# Altium footprint library RF Connectors.PcbLib: 8 footprints
Each footprint in its own frame and in the unit in brackets; x right, y up, seen from the top. Pads: shape width x height; smd on the part's side, far side on the other; paste and mask are expansions set on the pad; w line width, h text height; cw(c..) or ccw(c..) is an arc to the next point about the centre after c.
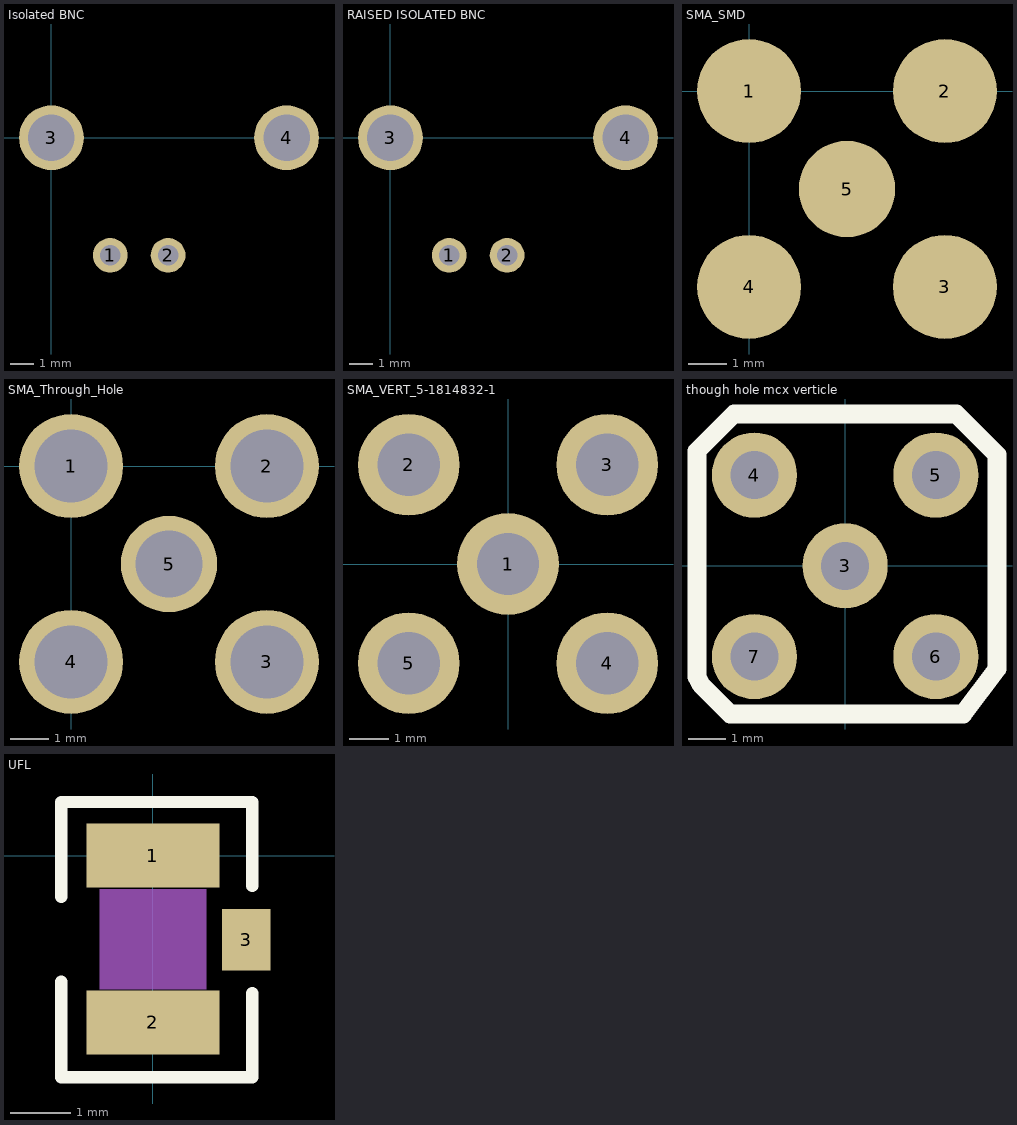
[diagram p0: the footprints below, top view; thin cyan lines are the x and y axes]

## Isolated BNC [mm]
pads (4):
  round 1.5 hole 0.89: 1(2.54,-5.08) 2(5.04,-5.08)
  round 2.8 hole 2.01: 3(0,0) 4(10.16,0)
3D body "isolated bnc.stp": height 12.91, standoff -4.55, extent -2.27,-7.239 12.43,28.261

## PCBComponent_1 [mm]

## RAISED ISOLATED BNC [mm] "Raised isolated BNC 1.8mm offset"
height 15.5
pads (4):
  round 1.5 hole 0.89: 1(2.54,-5.08) 2(5.04,-5.08)
  round 2.8 hole 2.01: 3(0,0) 4(10.16,0)
3D body "isolated bnc.stp": height 14.81, standoff -2.65, extent -2.3,-7.15 12.4,28.35

## SMA_SMD [mm] "Through hole sma board to panel connector"
pads (5):
  round 2.7 smd: 1(0,0) 2(5.08,0) 3(5.08,-5.08) 4(0,-5.08)
  round 2.5 smd: 5(2.54,-2.54)
3D body "SMA_SMD.stp": height 10.4, standoff 0, extent -9.708,-5.715 5.842,0.635

## SMA_Through_Hole [mm] "Through hole sma board to panel connector"
pads (5):
  round 2.7 hole 1.9: 1(0,0) 2(5.08,0) 3(5.08,-5.08) 4(0,-5.08)
  round 2.5 hole 1.75: 5(2.54,-2.54)
3D body "SMA_THROUGH_HOLE.stp": height 10.38, standoff -3.15, extent -0.623,-13.589 5.704,0.611

## SMA_VERT_5-1814832-1 [mm] "Vertical sma 5-1814832-1"
pads (5):
  round 2.6 hole 1.6: 1(0,0) 2(-2.54,2.54) 3(2.54,2.54) 4(2.54,-2.54) 5(-2.54,-2.54)
3D body "c-5-1814832-1-b-3d.stp": height 9.6, standoff -3.9, extent -3.2,-3.2 3.2,3.2

## though hole mcx verticle [mm]
height 6
pads (5):
  round 2.3 hole 1.3: 3(0,0)
  round 2.3 hole 1.3 paste+0: 4(-2.45,2.45) 5(2.45,2.45) 6(2.45,-2.45) 7(-2.45,-2.45)
Top Overlay:
  lines w0.5: -4,-3 -4,3.1 -3,4.1 3,4.1 4.1,3 4.1,-2.783 3.187,-4 -3.1,-4 -3.9,-3.2 -4,-3
3D body "c-1-1337581-0-d-3d.stp": height 6, standoff -4, extent -2.85,-2.85 2.85,2.85

## UFL [mil]
pads (3):
  rect 87x42 smd: 1(0,0) 2(0,-109.13)
  rect 32x40 smd: 3(61,-55)
Top Overlay:
  lines w8: -60,-82.56 -60,-145 65,-145 65,-90 ; -60,-27 -60,35 65,35 65,-20
Mechanical 8:
  rectangle: -35,-87.5 35,-22
3D body "U.FL-R-SMT-1.stp": height 48.59, standoff -0.62, extent -60,-114.05 62.04,4.05